# Altium footprint library PCB - CONNECTOR - JST - JST SM04B-GHS-TB.PCBLIB: 1 footprints
Each footprint in its own frame and in the unit in brackets; x right, y up, seen from the top. Pads: shape width x height; smd on the part's side, far side on the other; paste and mask are expansions set on the pad; w line width, h text height; cw(c..) or ccw(c..) is an arc to the next point about the centre after c.
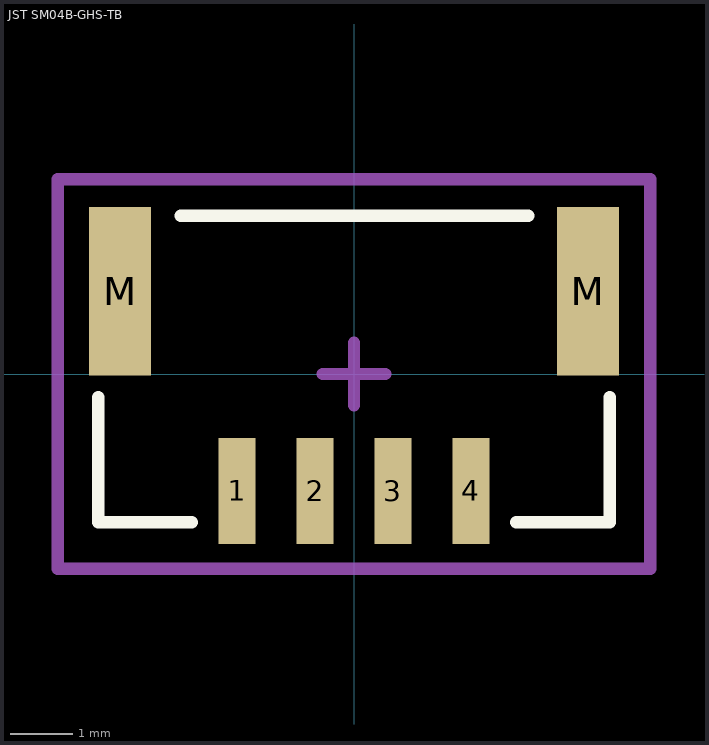
[diagram p0: the footprint, top view; thin cyan lines are the x and y axes]

## JST SM04B-GHS-TB [mm] "1.25mm pitch/Disconnectable Crimp style connectors"
height 4.35
pads (6):
  rect 0.6x1.7 smd: 1(-1.875,-1.875) 2(-0.625,-1.875) 3(0.625,-1.875) 4(1.875,-1.875)
  rect 1x2.7 smd: M(-3.75,1.325) M(3.75,1.325)
Top Overlay:
  lines w0.2: -4.1,-0.375 -4.1,-2.375 -2.6,-2.375 ; -2.774,2.54 2.794,2.54 ; 2.6,-2.375 4.1,-2.375 4.1,-0.375
Mechanical 15:
  lines w0.2: -0.5,0 0.5,0 ; 0,-0.5 0,0.5 ; -4.75,-3.125 4.75,-3.125 4.75,3.125 -4.75,3.125 -4.75,-3.125
3D body "JST SM04B-GHS-TB.STEP": height 4.35, standoff 0, extent -4.125,-2.31 4.125,2.54